# Altium footprint library 12V_Barrel_jack.PcbLib: 1 footprints
Each footprint in its own frame and in the unit in brackets; x right, y up, seen from the top. Pads: shape width x height; smd on the part's side, far side on the other; paste and mask are expansions set on the pad; w line width, h text height; cw(c..) or ccw(c..) is an arc to the next point about the centre after c.
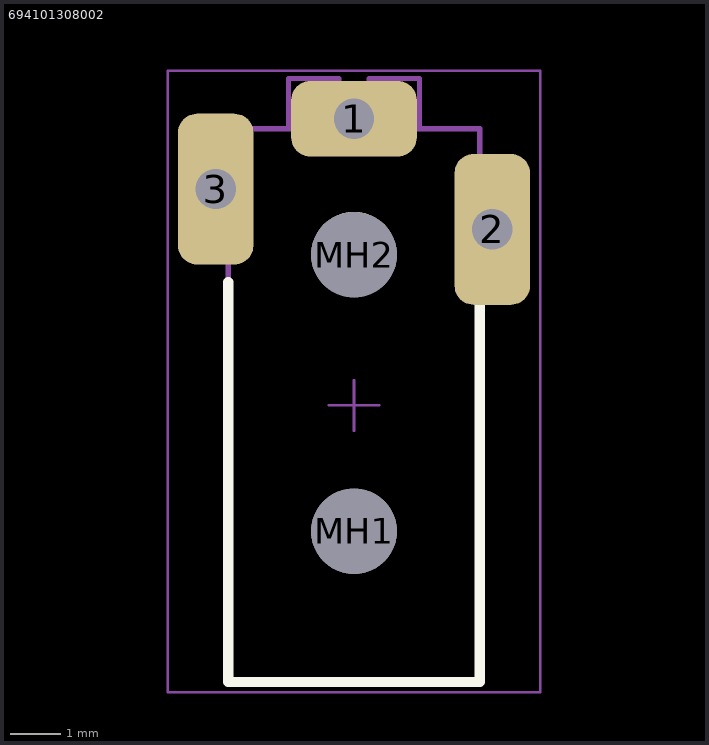
[diagram p0: the footprint, top view; thin cyan lines are the x and y axes]

## 694101308002 [mm] "DC Power Jack THT Right Angled Low Profile(2.8)"
height 5
pads (5):
  rrect50% 2.5x1.5 hole 0.8 square: 1(-1270,-1264.3)
  rrect50% 1.5x3 hole 0.8 square: 2(-1267.25,-1266.5) 3(-1272.75,-1265.7)
  round 1.7 hole 1.7 unplated: MH1(-1270,-1272.5) MH2(-1270,-1267)
Top Overlay:
  lines w0.2: -1272.5,-1267.55 -1272.5,-1275.5 -1267.5,-1275.5 -1267.5,-1267.55
Top Designator:
  text ".Designator" at -1277.498,-1270.5 h1.5
Top Component Outline:
  lines w0.1: -1271.3,-1264.5 -1271.3,-1263.5 -1270.3,-1263.5 -1270.3,-1264.5 ; -1269.7,-1264.5 -1269.7,-1263.5 -1268.7,-1263.5 -1268.7,-1264.5 ; -1272.5,-1275.5 -1272.5,-1264.5 -1267.5,-1264.5 -1267.5,-1275.5 -1272.5,-1275.5
Top 3D Body:
  lines w0.1: -1271.3,-1264.5 -1271.3,-1263.5 -1270.3,-1263.5 -1270.3,-1264.5 ; -1269.7,-1264.5 -1269.7,-1263.5 -1268.7,-1263.5 -1268.7,-1264.5 ; -1272.5,-1275.5 -1267.5,-1275.5 -1267.5,-1264.5 -1272.5,-1264.5 -1272.5,-1275.5
Top Courtyard:
  lines w0.05: -1270.5,-1270 -1269.5,-1270 ; -1270,-1270.5 -1270,-1269.5 ; -1273.7,-1275.7 -1273.7,-1263.35 -1266.3,-1263.35 -1266.3,-1275.7 -1273.7,-1275.7
3D body "694101308002.stp": height 5.05, standoff -2.25, extent -1272.9,-1275.5 -1267.1,-1263.5